# EAGLE library part ATTINY13A-SSU (library dan)
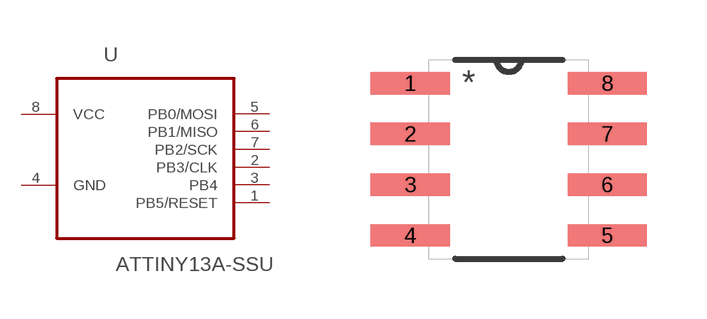
[diagram p3: symbol with the pads of SOIC-8; footprint SOIC-8]

Designator prefix -

## ATTINY13A-SSU  [SOIC-8]
1  PB5/RESET
2  PB3/CLK
3  PB4
4  GND  pas
5  PB0/MOSI
6  PB1/MISO
7  PB2/SCK
8  VCC  pwr

## Footprint SOIC-8 (pad centres in mm)
smd 1.981 x 0.559: 1 -2.464,1.905; 2 -2.464,0.635; 3 -2.464,-0.635; 4 -2.464,-1.905; 5 2.464,-1.905; 6 2.464,-0.635; 7 2.464,0.635; 8 2.464,1.905